# Altium footprint library DM1090FFC.PcbLib: 11 footprints
Each footprint in its own frame and in the unit in brackets; x right, y up, seen from the top. Pads: shape width x height; smd on the part's side, far side on the other; paste and mask are expansions set on the pad; w line width, h text height; cw(c..) or ccw(c..) is an arc to the next point about the centre after c.
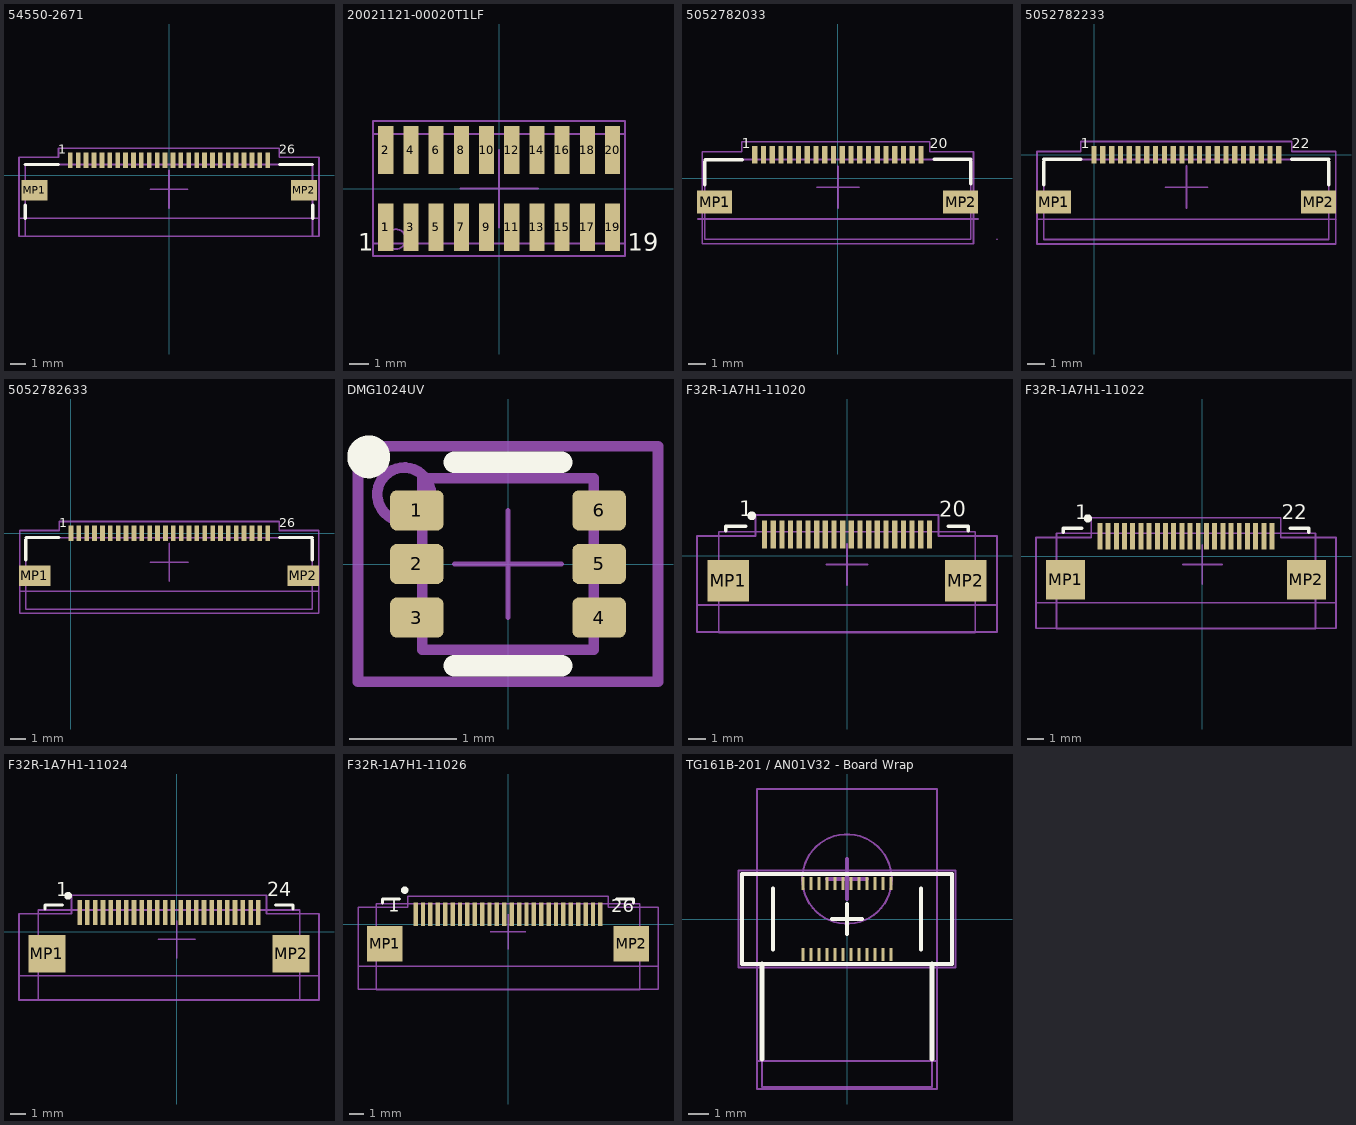
[diagram p0: the footprints below, top view; thin cyan lines are the x and y axes]

## 54550-2671 [mm] "26pin Molex FFC 0.5mm TOP"
height 1.2
pads (28):
  rect 0.3x1 smd: 1(-6.262,0.95) 2(-5.762,0.95) 3(-5.262,0.95) 4(-4.762,0.95) 5(-4.262,0.95) 6(-3.762,0.95) 7(-3.262,0.95) 8(-2.762,0.95) 9(-2.262,0.95) 10(-1.762,0.95) 11(-1.262,0.95) 12(-0.762,0.95) 13(-0.262,0.95) 14(0.238,0.95) 15(0.738,0.95) 16(1.238,0.95) 17(1.738,0.95) 18(2.238,0.95) 19(2.738,0.95) 20(3.238,0.95) 21(3.738,0.95) 22(4.238,0.95) 23(4.738,0.95) 24(5.238,0.95) 25(5.738,0.95) 26(6.238,0.95)
  rect 1.65x1.3 smd: MP1(-8.537,-0.95) MP2(8.538,-0.95)
Top Overlay:
  lines w0.2: -9.112,-2.75 -9.112,-1.89 ; -9.112,0.678 -7.012,0.678 ; 6.977,0.678 9.077,0.678 ; 9.088,-2.75 9.088,-1.89
  text "26" at 6.977,1.128 h1
  text "1" at -7.012,1.128 h1
Top Assembly:
  lines w0.1: -9.512,-3.872 9.488,-3.872 9.488,1.128 6.977,1.128 6.977,1.7 -7.012,1.7 -7.012,1.128 -9.512,1.128 -9.512,-3.872
  text "'.Designator'" at -3.112,-1.6 h1.52
Top Courtyard:
  lines w0.1: -9.512,-2.722 9.488,-2.722 ; -1.212,-0.9 -0.012,-0.9 ; -0.012,-2.1 -0.012,-0.9 ; -0.012,0.3 -0.012,-0.9 ; 1.188,-0.9 -0.012,-0.9 ; -9.512,-3.872 -9.512,-3.662 -9.512,1.128 -7.012,1.128 -7.012,1.7 6.977,1.7 6.977,1.128 9.488,1.128 9.488,-3.872 -9.122,-3.872 -9.512,-3.872
Top Component Outline:
  lines w0.1: -9.122,-3.872 -9.122,0.678 -9.114,0.678 9.077,0.678 9.077,-3.872 9.078,-3.872 -9.122,-3.872
3D body "545502671.stp": height 1.2, standoff 0, extent -9.122,-3.872 9.078,1.128

## 20021121-00020T1LF [mm] "20pin SMT Minitek127 1.27mm pitch"
pads (22):
  rect 0.76x2.4 smd: 1(-5.715,-1.95) 1(-5.715,-1.95) 2(-5.715,1.95) 2(-5.715,1.95) 3(-4.445,-1.95) 4(-4.445,1.95) 5(-3.175,-1.95) 6(-3.175,1.95) 7(-1.905,-1.95) 8(-1.905,1.95) 9(-0.635,-1.95) 10(-0.635,1.95) 11(0.635,-1.95) 12(0.635,1.95) 13(1.905,-1.95) 14(1.905,1.95) 15(3.175,-1.95) 16(3.175,1.95) 17(4.445,-1.95) 18(4.445,1.95) 19(5.715,-1.95) 20(5.715,1.95)
Top Overlay:
  text "1" at -7.112,-3.429 h1.52
  text "19" at 6.477,-3.429 h1.52
Top Assembly:
  lines w0.1: -6.35,-3.4 6.35,-3.4 6.35,3.4 -6.35,3.4 -6.35,-3.4 ; -4.699,-2.54 ccw(c-5.199,-2.54) -4.699,-2.54
  text "'.Designator'" at -4.445,0 h1.52
Top Courtyard:
  lines w0.1: -1.95,0 0.009,0 ; -0.009,0 1.95,0 ; 0,-1.95 0,0.009 ; 0,0 0,1.95 ; -6.35,-3.4 -6.35,3.4 6.35,3.4 6.35,-3.4 -6.35,-3.4
Top Component Outline:
  lines w0.1: -6.35,-2.75 -6.35,2.75 6.35,2.75 6.35,-2.75 -6.345,-2.75 -6.35,-2.75
3D body "20021121-00020T1LF.stp": height 4.55, standoff 0, extent -6.35,-2.75 6.35,2.75

## 5052782033 [mm] "20pin Molex FFC 0.5mm TOP"
height 1.2
pads (22):
  rect 0.3x1 smd: 1(-4.728,1.35) 2(-4.229,1.35) 3(-3.728,1.35) 4(-3.229,1.35) 5(-2.729,1.35) 6(-2.228,1.35) 7(-1.729,1.35) 8(-1.228,1.35) 9(-0.728,1.35) 10(-0.229,1.35) 11(0.272,1.35) 12(0.771,1.35) 13(1.272,1.35) 14(1.772,1.35) 15(2.271,1.35) 16(2.772,1.35) 17(3.271,1.35) 18(3.772,1.35) 19(4.272,1.35) 20(4.771,1.35)
  rect 2x1.3 smd: MP1(-7.029,-1.35) MP2(7.029,-1.35)
Top Overlay:
  lines w0.2: -7.572,-0.345 -7.572,0.945 ; -7.554,1.078 -5.455,1.078 ; 5.521,1.112 7.621,1.112 ; 7.615,-0.311 7.615,0.979
  text "1" at -5.479,1.528 h1
  text "20" at 5.272,1.528 h1
Top Assembly:
  lines w0.1: -7.728,-3.73 -7.728,1.528 -5.479,1.528 -5.479,2.1 5.272,2.1 5.272,1.528 7.772,1.528 7.772,-3.73 -7.728,-3.73
  text "'.Designator'" at -3.079,-1.2 h1.52
Top Courtyard:
  lines w0.1: -7.978,-2.322 8.022,-2.322 ; -1.178,-0.5 0.022,-0.5 ; 0.022,-1.7 0.022,-0.5 ; 0.022,0.7 0.022,-0.5 ; 1.222,-0.5 0.022,-0.5 ; -7.728,-3.73 7.772,-3.73 7.772,1.528 5.272,1.528 5.272,2.1 -5.479,2.1 -5.479,1.528 -7.728,1.528 -7.728,-1.512 -7.728,-3.73
Top Component Outline:
  lines w0.1: -7.587,1.078 -7.587,-3.472 7.613,-3.472 ; -7.579,1.078 7.611,1.078 7.611,-3.472 ; 9.11,-3.472 9.112,-3.472
3D body "5052782033.stp": height 1.88, standoff -0.02, extent -7.755,-3.66 7.745,1.64

## 5052782233 [mm] "22pin Molex FFC 0.5mm TOP"
height 1.2
pads (24):
  rect 0.3x1 smd: 1(0,0) 2(0.5,0) 3(1,0) 4(1.5,0) 5(2,0) 6(2.5,0) 7(3,0) 8(3.5,0) 9(4,0) 10(4.5,0) 11(5,0) 12(5.5,0) 13(6,0) 14(6.5,0) 15(7,0) 16(7.5,0) 17(8,0) 18(8.5,0) 19(9,0) 20(9.5,0) 21(10,0) 22(10.5,0)
  rect 2x1.3 smd: MP1(-2.3,-2.7) MP2(12.757,-2.7)
Top Overlay:
  lines w0.2: -2.868,-1.695 -2.868,-0.405 ; -2.85,-0.272 -0.75,-0.272 ; 11.239,-0.272 13.339,-0.272 ; 13.332,-1.695 13.332,-0.405
  text "1" at -0.75,0.178 h1
  text "22" at 11.239,0.178 h1
Top Assembly:
  lines w0.1: -3.25,-5.08 13.75,-5.08 13.75,0.178 11.239,0.178 11.239,0.75 -0.75,0.75 -0.75,0.178 -3.25,0.178 -3.25,-5.08
  text "'.Designator'" at 3.15,-2.55 h1.52
Top Courtyard:
  lines w0.1: -3.25,-3.672 13.754,-3.672 ; 4.05,-1.85 5.25,-1.85 ; 5.25,-3.05 5.25,-1.85 ; 5.25,-0.65 5.25,-1.85 ; 6.45,-1.85 5.25,-1.85 ; -3.25,-5.08 -3.25,-4.612 -3.25,0.178 -0.75,0.178 -0.75,0.75 11.239,0.75 11.239,0.178 13.75,0.178 13.75,-5.08 -2.601,-5.08 -3.25,-5.08
Top Component Outline:
  lines w0.1: -2.859,-4.822 -2.859,-0.272 -2.851,-0.272 13.339,-0.272 13.339,-4.822 13.341,-4.822 -2.859,-4.822
3D body "5052782233.stp": height 1.88, standoff -0.02, extent -2.998,-5.08 13.502,0.22

## 5052782633 [mm] "26pin Molex FFC 0.5mm TOP"
height 1.2
pads (28):
  rect 0.3x1 smd: 1(0,0) 2(0.5,0) 3(1,0) 4(1.5,0) 5(2,0) 6(2.5,0) 7(3,0) 8(3.5,0) 9(4,0) 10(4.5,0) 11(5,0) 12(5.5,0) 13(6,0) 14(6.5,0) 15(7,0) 16(7.5,0) 17(8,0) 18(8.5,0) 19(9,0) 20(9.5,0) 21(10,0) 22(10.5,0) 23(11,0) 24(11.5,0) 25(12,0) 26(12.5,0)
  rect 2x1.3 smd: MP1(-2.3,-2.7) MP2(14.757,-2.7)
Top Overlay:
  lines w0.2: -2.868,-1.695 -2.868,-0.405 ; -2.85,-0.272 -0.75,-0.272 ; 13.239,-0.272 15.339,-0.272 ; 15.332,-1.695 15.332,-0.405
  text "1" at -0.75,0.178 h1
  text "26" at 13.239,0.178 h1
Top Assembly:
  lines w0.1: -3.25,-5.08 -3.25,0.178 -0.75,0.178 -0.75,0.75 13.239,0.75 13.239,0.178 15.75,0.178 15.75,-5.08 -3.25,-5.08
  text "'.Designator'" at 3.15,-2.55 h1.52
Top Courtyard:
  lines w0.1: -3.25,-3.672 15.75,-3.672 ; 5.05,-1.85 6.25,-1.85 ; 6.25,-3.05 6.25,-1.85 ; 6.25,-0.65 6.25,-1.85 ; 7.45,-1.85 6.25,-1.85 ; -3.25,-5.08 -2.601,-5.08 15.75,-5.08 15.75,0.178 13.239,0.178 13.239,0.75 -0.75,0.75 -0.75,0.178 -3.25,0.178 -3.25,-4.612 -3.25,-5.08
Top Component Outline:
  lines w0.1: -2.859,-4.822 15.341,-4.822 15.339,-4.822 15.339,-0.272 -2.851,-0.272 -2.859,-0.272 -2.859,-4.822
3D body "5052782633.stp": height 1.88, standoff -0.02, extent -3.006,-5.08 15.494,0.22

## DMG1024UV [mm] "SOT-563, SOT-563-6"
height 0.6
pads (6):
  rrect33% 0.5x0.375 smd paste+0 mask+0.05: 1(-0.85,0.5) 2(-0.85,0) 3(-0.85,-0.5) 4(0.85,-0.5) 5(0.85,0) 6(0.85,0.5)
Top Overlay:
  circle w0.2: c-1.3,1 r0.1
  lines w0.2: -0.5,-0.95 0.5,-0.95 ; -0.5,0.95 0.5,0.95
Top Assembly:
  circle w0.1: c-0.97,0.65 r0.25
  lines w0.1: -1.4,-1.1 1.4,-1.1 1.4,1.1 -1.4,1.1 -1.4,-1.1
  text "'.Designator'" at 0,0 h1
Top Courtyard:
  lines w0.05: -0.5,0 0,0 ; 0,-0.5 0,0 ; 0,0.5 0,0 ; 0.5,0 0,0 ; 0,0 0,0 ; -1.4,-1.1 -1.4,1.1 1.4,1.1 1.4,-1.1 -1.4,-1.1
Top Component Outline:
  lines w0.1: -0.8,-0.8 0.8,-0.8 0.8,0.8 -0.8,0.8 -0.8,-0.8
3D body "DRL0006A.stp": height 0.61, standoff 0.01, extent -0.8,-0.8 0.8,0.8

## F32R-1A7H1-11020 [mm] "20pin Molex FFC 0.5mm Bottom"
height 1.2
pads (22):
  rect 0.3x1.6 smd: 1(-4.75,1.225) 2(-4.25,1.225) 3(-3.75,1.225) 4(-3.25,1.225) 5(-2.75,1.225) 6(-2.25,1.225) 7(-1.75,1.225) 8(-1.25,1.225) 9(-0.75,1.225) 10(-0.25,1.225) 11(0.25,1.225) 12(0.75,1.225) 13(1.25,1.225) 14(1.75,1.225) 15(2.25,1.225) 16(2.75,1.225) 17(3.25,1.225) 18(3.75,1.225) 19(4.25,1.225) 20(4.75,1.225)
  rect 2.4x2.4 smd: MP1(-6.85,-1.425) MP2(6.85,-1.425)
Top Overlay:
  circle w0.25: c-5.486,2.311 r0.125
  lines w0.2: -6.985,1.451 -6.985,1.705 -5.842,1.705 ; 5.842,1.705 6.985,1.705 6.985,1.451
  text "1" at -6.223,1.956 h1.52
  text "20" at 5.333,1.952 h1.52
Top Assembly:
  lines w0.1: -8.65,-4.394 -8.65,1.143 -5.272,1.143 -5.272,2.35 5.272,2.35 5.272,1.143 8.65,1.143 8.65,-4.394 -8.65,-4.394
  text "'.Designator'" at -3.079,-1.2 h1.52
Top Courtyard:
  lines w0.1: -8.65,-2.83 8.65,-2.83 ; -1.2,-0.5 0,-0.5 ; 0,-1.7 0,-0.5 ; 0,0.7 0,-0.5 ; 1.2,-0.5 0,-0.5 ; -8.65,-4.394 -8.65,1.143 -5.272,1.143 -5.272,2.35 5.272,2.35 5.272,1.143 8.65,1.143 8.65,-4.394 -8.65,-4.394
Top Component Outline:
  lines w0.1: -7.4,-4.42 -7.4,1.397 7.4,1.397 7.4,-4.42 -7.4,-4.42
3D body "f32r_20pin_asm.stp": height 2.08, standoff -0.02, extent -8.656,-4.475 8.644,1.025

## F32R-1A7H1-11022 [mm] "26pin Molex FFC 0.5mm Bottom"
height 1.2
pads (24):
  rect 0.3x1.6 smd: 1(-6.25,1.225) 2(-5.75,1.225) 3(-5.25,1.225) 4(-4.75,1.225) 5(-4.25,1.225) 6(-3.75,1.225) 7(-3.25,1.225) 8(-2.75,1.225) 9(-2.25,1.225) 10(-1.75,1.225) 11(-1.25,1.225) 12(-0.75,1.225) 13(-0.25,1.225) 14(0.25,1.225) 15(0.75,1.225) 16(1.25,1.225) 17(1.75,1.225) 18(2.25,1.225) 19(2.75,1.225) 20(3.25,1.225) 21(3.75,1.225) 22(4.25,1.225)
  rect 2.4x2.4 smd: MP1(-8.35,-1.425) MP2(6.35,-1.425)
Top Overlay:
  circle w0.25: c-6.986,2.311 r0.125
  lines w0.2: -8.485,1.451 -8.485,1.705 -7.342,1.705 ; 5.342,1.705 6.485,1.705 6.485,1.451
  text "1" at -7.747,1.956 h1.52
  text "22" at 4.833,1.952 h1.52
Top Assembly:
  lines w0.1: -6.771,2.35 -6.771,1.143 -10.15,1.143 -10.15,-4.394 8.15,-4.394 8.15,1.143 4.772,1.143 4.772,2.35 -6.771,2.35
  text "'.Designator'" at -3.302,-1.321 h1.52
Top Courtyard:
  lines w0.1: -10.15,-2.83 8.153,-2.83 ; -6.771,2.35 -6.771,1.143 -10.15,1.143 -10.15,-4.394 8.15,-4.394 8.15,1.143 4.772,1.143 4.772,2.35 -6.771,2.35 ; -1.2,-0.5 0,-0.5 ; 0,-1.7 0,-0.5 ; 0,0.7 0,-0.5 ; 1.2,-0.5 0,-0.5
Top Component Outline:
  lines w0.1: -8.9,-4.42 -8.9,1.397 6.9,1.397 6.9,-4.42 -8.9,-4.42
3D body "f32r_22pin_asm.stp": height 2.1, standoff 0, extent -10.133,-4.48 8.167,1.02

## F32R-1A7H1-11024 [mm] "24pin Molex FFC 0.5mm Bottom"
height 1.2
pads (26):
  rect 0.3x1.6 smd: 1(-6.25,1.225) 2(-5.75,1.225) 3(-5.25,1.225) 4(-4.75,1.225) 5(-4.25,1.225) 6(-3.75,1.225) 7(-3.25,1.225) 8(-2.75,1.225) 9(-2.25,1.225) 10(-1.75,1.225) 11(-1.25,1.225) 12(-0.75,1.225) 13(-0.25,1.225) 14(0.25,1.225) 15(0.75,1.225) 16(1.25,1.225) 17(1.75,1.225) 18(2.25,1.225) 19(2.75,1.225) 20(3.25,1.225) 21(3.75,1.225) 22(4.25,1.225) 23(4.75,1.225) 24(5.25,1.225)
  rect 2.4x2.4 smd: MP1(-8.35,-1.425) MP2(7.35,-1.425)
Top Overlay:
  circle w0.25: c-6.986,2.311 r0.125
  lines w0.2: -8.485,1.451 -8.485,1.705 -7.342,1.705 ; 6.342,1.705 7.485,1.705 7.485,1.451
  text "1" at -7.747,1.956 h1.52
  text "24" at 5.833,1.952 h1.52
Top Assembly:
  lines w0.1: -10.15,-4.394 9.15,-4.394 9.15,1.143 5.771,1.143 5.771,2.35 -6.771,2.35 -6.771,1.143 -10.15,1.143 -10.15,-4.394
  text "'.Designator'" at -3.302,-1.321 h1.52
Top Courtyard:
  lines w0.1: -10.15,-2.83 9.15,-2.83 ; -1.2,-0.5 0,-0.5 ; 0,-1.7 0,-0.5 ; 0,0.7 0,-0.5 ; 1.2,-0.5 0,-0.5 ; -10.15,-4.394 9.15,-4.394 9.15,1.143 5.771,1.143 5.771,2.35 -6.771,2.35 -6.771,1.143 -10.15,1.143 -10.15,-4.394
Top Component Outline:
  lines w0.1: -8.9,-4.42 7.9,-4.42 7.9,1.397 -8.9,1.397 -8.9,-4.42
3D body "f32r_24pin_asm.stp": height 2, standoff -0.1, extent -10.153,-4.472 9.147,1.028

## F32R-1A7H1-11026 [mm] "26pin Molex FFC 0.5mm Bottom"
height 1.2
pads (28):
  rect 0.3x1.6 smd: 1(-6.25,0.675) 2(-5.75,0.675) 3(-5.25,0.675) 4(-4.75,0.675) 5(-4.25,0.675) 6(-3.75,0.675) 7(-3.25,0.675) 8(-2.75,0.675) 9(-2.25,0.675) 10(-1.75,0.675) 11(-1.25,0.675) 12(-0.75,0.675) 13(-0.25,0.675) 14(0.25,0.675) 15(0.75,0.675) 16(1.25,0.675) 17(1.75,0.675) 18(2.25,0.675) 19(2.75,0.675) 20(3.25,0.675) 21(3.75,0.675) 22(4.25,0.675) 23(4.75,0.675) 24(5.25,0.675) 25(5.75,0.675) 26(6.25,0.675)
  rect 2.4x2.4 smd: MP1(-8.35,-1.325) MP2(8.35,-1.325)
Top Overlay:
  circle w0.25: c-6.986,2.311 r0.125
  lines w0.2: -8.485,1.451 -8.485,1.705 -7.342,1.705 ; 7.342,1.705 8.485,1.705 8.485,1.451
  text "1" at -8.1,0.55 h1.52
  text "26" at 7,0.5 h1.52
Top Assembly:
  lines w0.1: -10.15,-4.394 10.15,-4.394 10.15,1.143 6.772,1.143 6.772,1.886 -6.771,1.886 -6.771,1.143 -10.15,1.143 -10.15,-4.394
  text "'.Designator'" at -3.302,-1.321 h1.52
Top Courtyard:
  lines w0.1: -10.15,-2.83 10.15,-2.83 ; -1.2,-0.5 0,-0.5 ; 0,-1.7 0,-0.5 ; 0,0.7 0,-0.5 ; 1.2,-0.5 0,-0.5 ; 6.76,1.886 -6.771,1.886 -6.771,1.143 -10.15,1.143 -10.15,-4.394 10.15,-4.394 10.15,1.143 6.771,1.143 6.771,1.885
Top Component Outline:
  lines w0.1: -8.9,-4.42 8.9,-4.42 8.9,1.397 -8.9,1.397 -8.9,-4.42
3D body "f32r_26pin_asm.stp": height 2.08, standoff -0.02, extent -10.156,-4.475 10.144,1.025

## TG161B-201 / AN01V32 - Board Wrap [mm] "SMT connector: BBR43-24KB533"
pads (24):
  rect 0.15x0.65 smd mask+0.05: 1(2.2,-1.775) 2(1.8,-1.775) 3(1.4,-1.775) 4(1,-1.775) 5(0.6,-1.775) 6(0.2,-1.775) 7(-0.2,-1.775) 8(-0.6,-1.775) 9(-1,-1.775) 10(-1.4,-1.775) 11(-1.8,-1.775) 12(-2.2,-1.775) 13(-2.2,1.775) 14(-1.8,1.775) 15(-1.4,1.775) 16(-1,1.775) 17(-0.6,1.775) 18(-0.2,1.775) 19(0.2,1.775) 20(0.6,1.775) 21(1,1.775) 22(1.4,1.775) 23(1.8,1.775) 24(2.2,1.775)
Top Overlay:
  lines w0.2: -3.705,-1.53 -3.705,1.53 ; -0.75,0 0,0 ; 0,-0.75 0,0 ; 0,0.75 0,0 ; 0.75,0 0,0 ; 3.705,-1.53 3.705,1.53 ; -5.25,-2.25 -5.25,2.25 5.25,2.25 5.25,-2.25 -5.25,-2.25
  lines w0.25: -4.25,-7 -4.25,-2.25 ; 4.25,-7 4.25,-2.25
Bottom Overlay:
  circle w0.1: c0,2 r2.236
  lines w0.2: -1,2 1,2 ; 0,1 0,3
  lines w0.25: -4.25,-7 -4.25,-2.25 ; -4.25,-5 -4.25,-2.25 ; 4.25,-7 4.25,-2.25 ; 4.25,-5 4.25,-2.25 ; -4.25,-2.25 -4.25,6.25 ; -4.25,-2.25 4.25,-2.25 ; -4.25,-2.25 -4.25,6.25 ; -4.25,-2.25 4.25,-2.25 ; -4.25,6.25 4.25,6.25 ; -4.25,6.25 4.25,6.25 ; 4.25,-2.25 4.25,6.25 ; 4.25,-2.25 4.25,6.25
Top Assembly:
  lines w0.1: -4.5,-2.425 -4.5,-8.49 ; 4.5,-2.425 4.5,-8.49 ; -4.5,-8.49 -4.5,-7.09 4.5,-7.09 ; -4.5,-8.49 4.5,-8.49 ; 4.5,-8.49 4.5,-7.09 ; 4.5,-7.09 4.5,-7.09 ; -5.425,-2.425 -5.425,2.425 5.425,2.425 5.425,-2.425 -5.425,-2.425
  text "Flex edge" at -0.9,-8.39 h0.5
  text "Board edge" at -1.1,-6.99 h0.5
  text "'.Designator'" at 0,0 h1
Bottom Assembly:
  circle w0.1: c0,2 r2.236
  lines w0.1: -4.5,-7.09 -4.5,-8.49 4.5,-8.49 4.5,-7.09 ; -4.5,-7.09 -4.5,6.5 4.5,6.5 4.5,-7.09 ; -4.5,-7.09 4.5,-7.09
  lines w0.2: -1,2 1,2 ; 0,1 0,3
  text "Flex edge" at 0.9,-8.39 h0.5
  text "Board edge" at 1.1,-6.99 h0.5
Top Courtyard:
  lines w0.05: -4.5,-7.05 -4.5,-2.425 ; -0.8,0 0.8,0 ; 0,-0.8 0,0.8 ; 4.5,-7.05 4.5,-2.425 ; -5.425,-2.425 -5.425,2.425 5.425,2.425 5.425,-2.425 -5.425,-2.425
Bottom Courtyard:
  lines w0.05: -4.5,-7.05 -4.5,6.5 4.5,6.5 4.5,-7.05
Top Component Outline:
  lines w0.1: -5.25,-2.25 -4.25,-2.25 -4.25,-8.4 4.25,-8.4 4.25,-2.25 5.25,-2.25 5.25,2.25 -5.25,2.25 -5.25,-2.25
Bottom Component Outline:
  lines w0.1: -4.25,-2.25 -4.25,-8.4 4.25,-8.4 4.25,-2.25 ; -4.5,-2.425 4.5,-2.425 4.5,6.5 -4.5,6.5 -4.5,-2.425
3D body: height 1.7, standoff 0, extent -4.25,-2.25 4.25,6.25
3D body: height 3.4, standoff 1.7, extent -3.25,-1.247 3.25,5.247
3D body: height 4.4, standoff 1.7, extent -2.75,-0.75 2.75,4.75
3D body: height 0.34, standoff 0.24, extent -4.25,-8.31 4.25,-2.25
3D body: height 0.94, standoff -1.94, extent -4.25,-8.41 4.25,-8.31
3D body: height 0.94, standoff 0.84, extent -5.25,-2.25 5.25,2.25
3D body: height 0.94, standoff 0.84, extent -4.25,-8.31 4.25,-2.25